# Altium footprint library Resistors.PcbLib: 21 footprints (part 2 of 2)
Each footprint in its own frame and in the unit in brackets; x right, y up, seen from the top. Pads: shape width x height; smd on the part's side, far side on the other; paste and mask are expansions set on the pad; w line width, h text height; cw(c..) or ccw(c..) is an arc to the next point about the centre after c.
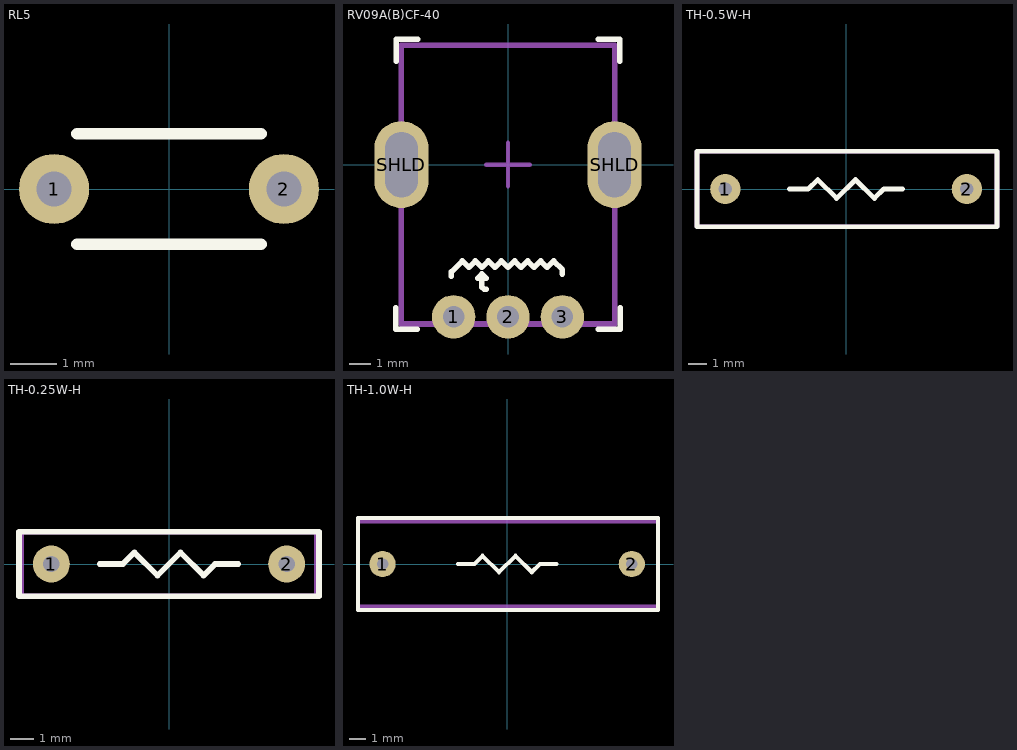
[diagram p1: the footprints below, top view; thin cyan lines are the x and y axes]

## RL5 [mil] "Leads, between 5mm"
pads (2):
  round 60 hole 30: 1(-98.43,0) 2(98.43,0)
Top Overlay:
  lines w10: -78.74,-47.24 78.74,-47.24 ; -78.74,47.24 78.74,47.24

## RV09A(B)CF-40 [mm] "9mm Rotary Type, Snap-In, Insulated Shaft"
height 11.5
pads (5):
  round 2 hole 1: 1(-2.5,-7) 2(0,-7) 3(2.5,-7)
  oval 2.5x4 hole 1.5 slot 3 at 90 deg: SHLD(-4.9,0) SHLD(4.9,0)
Top Overlay:
  lines w0.254: -5.17,-6.58 -5.17,-7.58 -4.17,-7.58 ; -5.15,4.76 -5.15,5.76 -4.15,5.76 ; -2.6,-5.13 -2.6,-4.93 ; -1,-5.73 -1.1,-5.73 -1.2,-5.63 -1.2,-5.03 ; 2.5,-5.03 2.5,-4.83 2.1,-4.43 1.8,-4.73 1.5,-4.43 1.2,-4.73 0.9,-4.43 0.6,-4.73 ; 4.15,5.76 5.15,5.76 5.15,4.76 ; 4.16,-7.58 5.16,-7.58 5.16,-6.58 ; -2.6,-4.93 -2.6,-4.93 ; -2.6,-4.93 -2.1,-4.43 -1.8,-4.73 ; -1.8,-4.73 -1.8,-4.73 ; -1.8,-4.73 -1.5,-4.43 ; -1.5,-4.43 -1.5,-4.43 ; -1.5,-4.43 -1.2,-4.73 -0.9,-4.43 -0.6,-4.73 ; -1.2,-5.03 -1.4,-5.23 -1,-5.23 -1.2,-5.03 ; -0.6,-4.73 -0.6,-4.73 ; -0.6,-4.73 -0.3,-4.43 0,-4.73 0.3,-4.43 0.6,-4.73 ; 0.6,-4.73 0.6,-4.73
Mechanical 13:
  lines w0.254: -4.91,5.5 -4.91,-7.33 4.89,-7.33 ; -4.9,5.5 4.9,5.5 4.9,-7.33
Mechanical 15:
  lines w0.2: -1,0 0,0 1,0 ; 0,-1 0,1
3D body "RV09ACF-40_RK09K1130A5R.step": height 19.8, standoff -4, extent -4.866,-7.19 4.886,5.36

## TH-0.5W-H [mm] "Through hole mount resistor 0.5 Watt"
height 6
pads (2):
  round 1.6 hole 0.7: 1(-6.4,0) 2(6.4,0)
Top Overlay:
  lines w0.254: -3,0 -2,0 ; 3,0 2,0 1.5,-0.5 0.5,0.5 ; -2,0 -1.5,0.5 -0.5,-0.5 0.5,0.5 ; -2,0 -2,0 ; 0.5,0.5 0.5,0.5 ; 0.5,0.5 0.5,0.5 ; -7.9,-2 -7.9,2 -4.5,2 8,2 8,-2 -7.9,-2
Mechanical 13:
  lines w0.254: -7.9,-2 -7.9,2 8,2 8,-2 -7.9,-2
3D body "User Library-Res50-Axial 0_5W-1_5K.step": height 5.38, standoff -4, extent -6.725,-1.875 6.725,1.875

## TH-0.25W-H [mm] "Through hole mount resistor 0.25 Watt"
height 5
pads (2):
  round 1.6 hole 0.7: 1(-5.1,0) 2(5.1,0)
Top Overlay:
  lines w0.254: -3,0 -2,0 ; 3,0 2,0 1.5,-0.5 0.5,0.5 ; -2,0 -2,0 ; -2,0 -1.5,0.5 -0.5,-0.5 0.5,0.5 ; 0.5,0.5 0.5,0.5 ; 0.5,0.5 0.5,0.5 ; -6.5,-1.4 6.5,-1.4 6.5,1.4 -6.5,1.4 -6.5,-1.4
Mechanical 13:
  lines w0.254: -6.4,-1.4 6.4,-1.4 6.4,1.4 -6.4,1.4 -6.4,-1.4
3D body "User Library-Res40-Axial Short 0_25W-0_15R.step": height 3.41, standoff -1, extent -5.38,-1.2 5.38,1.2

## TH-1.0W-H [mm] "Through hole mount resistor 1 Watt"
height 8
pads (2):
  round 1.6 hole 0.7: 1(-7.6,0) 2(7.6,0)
Top Overlay:
  lines w0.254: -3,0 -2,0 ; 3,0 2,0 1.5,-0.5 0.5,0.5 ; -2,0 -2,0 ; -2,0 -1.5,0.5 -0.5,-0.5 0.5,0.5 ; 0.5,0.5 0.5,0.5 ; 0.5,0.5 0.5,0.5 ; -9.1,-2.8 9.2,-2.8 9.2,2.8 -7.8,2.8 -9.1,2.8 -9.1,-2.8
Mechanical 13:
  lines w0.254: -9.1,-2.6 9.2,-2.6 9.2,2.6 -9.1,2.6 -9.1,-2.6
3D body "User Library-RES-1W.STEP": height 6, standoff -2, extent -7.97,-2.5 7.97,2.5